# Altium footprint library STSPIN32F0A.PcbLib: 3 footprints
Each footprint in its own frame and in the unit in brackets; x right, y up, seen from the top. Pads: shape width x height; smd on the part's side, far side on the other; paste and mask are expansions set on the pad; w line width, h text height; cw(c..) or ccw(c..) is an arc to the next point about the centre after c.
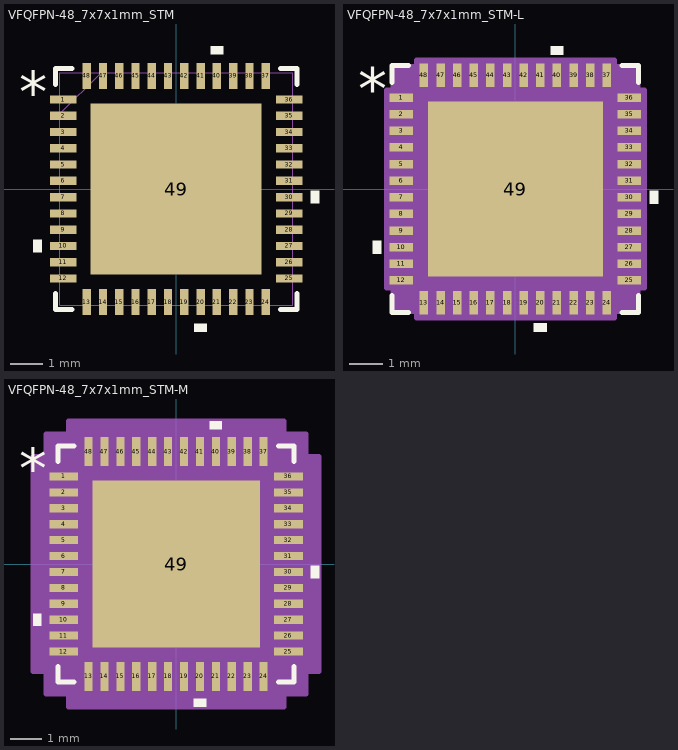
[diagram p0: the footprints below, top view; thin cyan lines are the x and y axes]

## VFQFPN-48_7x7x1mm_STM [mm]
pads (49):
  rect 0.808x0.255 smd paste+0 mask+0: 1(-3.477,2.75) 2(-3.477,2.25) 3(-3.477,1.75) 4(-3.477,1.25) 5(-3.477,0.75) 6(-3.477,0.25) 7(-3.477,-0.25) 8(-3.477,-0.75) 9(-3.477,-1.25) 10(-3.477,-1.75) 11(-3.477,-2.25) 12(-3.477,-2.75) 25(3.477,-2.75) 26(3.477,-2.25) 27(3.477,-1.75) 28(3.477,-1.25) 29(3.477,-0.75) 30(3.477,-0.25) 31(3.477,0.25) 32(3.477,0.75) 33(3.477,1.25) 34(3.477,1.75) 35(3.477,2.25) 36(3.477,2.75)
  rect 0.255x0.808 smd paste+0 mask+0: 13(-2.75,-3.477) 14(-2.25,-3.477) 15(-1.75,-3.477) 16(-1.25,-3.477) 17(-0.75,-3.477) 18(-0.25,-3.477) 19(0.25,-3.477) 20(0.75,-3.477) 21(1.25,-3.477) 22(1.75,-3.477) 23(2.25,-3.477) 24(2.75,-3.477) 37(2.75,3.477) 38(2.25,3.477) 39(1.75,3.477) 40(1.25,3.477) 41(0.75,3.477) 42(0.25,3.477) 43(-0.25,3.477) 44(-0.75,3.477) 45(-1.25,3.477) 46(-1.75,3.477) 47(-2.25,3.477) 48(-2.75,3.477)
  rect 5.258x5.258 smd paste-2.629 mask+0: 49(0,0)
Top Overlay:
  region: 1.441,4.135 1.06,4.135 1.06,4.389 1.441,4.389
  region: 4.135,-0.059 4.389,-0.059 4.389,-0.44 4.135,-0.44
  region: 0.941,-4.135 0.56,-4.135 0.56,-4.389 0.941,-4.389
  region: -4.135,-1.559 -4.389,-1.559 -4.389,-1.94 -4.135,-1.94
  lines w0.152: -3.708,-3.21 -3.708,-3.708 -3.21,-3.708 ; -3.708,3.21 -3.708,3.708 -3.21,3.708 ; 3.21,-3.708 3.708,-3.708 3.708,-3.21 ; 3.21,3.708 3.708,3.708 3.708,3.21
  text "*" at -4.834,2.365 h1.27
Top Paste:
  region: 2.529,-1.414 1.414,-1.414 1.414,-2.529 2.529,-2.529
  region: 2.529,-0.1 1.414,-0.1 1.414,-1.214 2.529,-1.214
  region: 2.529,1.214 1.414,1.214 1.414,0.1 2.529,0.1
  region: 2.529,2.529 1.414,2.529 1.414,1.414 2.529,1.414
  region: 1.214,-1.414 0.1,-1.414 0.1,-2.529 1.214,-2.529
  region: 1.214,-0.1 0.1,-0.1 0.1,-1.214 1.214,-1.214
  region: 1.214,1.214 0.1,1.214 0.1,0.1 1.214,0.1
  region: 1.214,2.529 0.1,2.529 0.1,1.414 1.214,1.414
  region: -0.1,-1.414 -1.214,-1.414 -1.214,-2.529 -0.1,-2.529
  region: -0.1,-0.1 -1.214,-0.1 -1.214,-1.214 -0.1,-1.214
  region: -0.1,1.214 -1.214,1.214 -1.214,0.1 -0.1,0.1
  region: -0.1,2.529 -1.214,2.529 -1.214,1.414 -0.1,1.414
  region: -1.414,-1.414 -2.529,-1.414 -2.529,-2.529 -1.414,-2.529
  region: -1.414,-0.1 -2.529,-0.1 -2.529,-1.214 -1.414,-1.214
  region: -1.414,1.214 -2.529,1.214 -2.529,0.1 -1.414,0.1
  region: -1.414,2.529 -2.529,2.529 -2.529,1.414 -1.414,1.414
Mechanical 13:
  lines w0.025: -3.581,2.311 -2.311,3.581 ; -3.581,-3.581 -3.581,3.581 3.581,3.581 3.581,-3.581 -3.581,-3.581 ; -3.581,-2.902 -3.581,-2.598 -3.581,-2.902 ; -3.581,-2.402 -3.581,-2.098 -3.581,-2.402 ; -3.581,-1.902 -3.581,-1.598 -3.581,-1.902 ; -3.581,-1.402 -3.581,-1.098 -3.581,-1.402 ; -3.581,-0.902 -3.581,-0.598 -3.581,-0.902 ; -3.581,-0.402 -3.581,-0.098 -3.581,-0.402 ; -3.581,0.098 -3.581,0.402 -3.581,0.098 ; -3.581,0.598 -3.581,0.902 -3.581,0.598 ; -3.581,1.098 -3.581,1.402 -3.581,1.098 ; -3.581,1.598 -3.581,1.902 -3.581,1.598 ; -3.581,2.098 -3.581,2.402 -3.581,2.098 ; -3.581,2.598 -3.581,2.902 -3.581,2.598 ; -2.902,-3.581 -2.598,-3.581 -2.902,-3.581 ; -2.902,3.581 -2.598,3.581 -2.902,3.581 ; -2.402,-3.581 -2.098,-3.581 -2.402,-3.581 ; -2.402,3.581 -2.098,3.581 -2.402,3.581 ; -1.902,-3.581 -1.598,-3.581 -1.902,-3.581 ; -1.902,3.581 -1.598,3.581 -1.902,3.581 ; -1.402,-3.581 -1.098,-3.581 -1.402,-3.581 ; -1.402,3.581 -1.098,3.581 -1.402,3.581 ; -0.902,-3.581 -0.598,-3.581 -0.902,-3.581 ; -0.902,3.581 -0.598,3.581 -0.902,3.581 ; -0.402,-3.581 -0.098,-3.581 -0.402,-3.581 ; -0.402,3.581 -0.098,3.581 -0.402,3.581 ; 0.098,-3.581 0.402,-3.581 0.098,-3.581 ; 0.098,3.581 0.402,3.581 0.098,3.581 ; 0.598,-3.581 0.902,-3.581 0.598,-3.581 ; 0.598,3.581 0.902,3.581 0.598,3.581 ; 1.098,-3.581 1.402,-3.581 1.098,-3.581 ; 1.098,3.581 1.402,3.581 1.098,3.581 ; 1.598,-3.581 1.902,-3.581 1.598,-3.581 ; 1.598,3.581 1.902,3.581 1.598,3.581 ; 2.098,-3.581 2.402,-3.581 2.098,-3.581 ; 2.098,3.581 2.402,3.581 2.098,3.581 ; 2.598,-3.581 2.902,-3.581 2.598,-3.581 ; 2.598,3.581 2.902,3.581 2.598,3.581 ; 3.581,-2.902 3.581,-2.598 3.581,-2.902 ; 3.581,-2.402 3.581,-2.098 3.581,-2.402 ; 3.581,-1.902 3.581,-1.598 3.581,-1.902 ; 3.581,-1.402 3.581,-1.098 3.581,-1.402 ; 3.581,-0.902 3.581,-0.598 3.581,-0.902 ; 3.581,-0.402 3.581,-0.098 3.581,-0.402 ; 3.581,0.098 3.581,0.402 3.581,0.098 ; 3.581,0.598 3.581,0.902 3.581,0.598 ; 3.581,1.098 3.581,1.402 3.581,1.098 ; 3.581,1.598 3.581,1.902 3.581,1.598 ; 3.581,2.098 3.581,2.402 3.581,2.098 ; 3.581,2.598 3.581,2.902 3.581,2.598
  text "*" at -3.391,2.365 h1.27
3D body "VFQFPN-48_7x7x1mm_STM.step": height 0.99, standoff 0, extent -3.581,-3.581 3.581,3.581

## VFQFPN-48_7x7x1mm_STM-L [mm]
pads (49):
  rect 0.708x0.255 smd paste+0 mask+0: 1(-3.427,2.75) 2(-3.427,2.25) 3(-3.427,1.75) 4(-3.427,1.25) 5(-3.427,0.75) 6(-3.427,0.25) 7(-3.427,-0.25) 8(-3.427,-0.75) 9(-3.427,-1.25) 10(-3.427,-1.75) 11(-3.427,-2.25) 12(-3.427,-2.75) 25(3.427,-2.75) 26(3.427,-2.25) 27(3.427,-1.75) 28(3.427,-1.25) 29(3.427,-0.75) 30(3.427,-0.25) 31(3.427,0.25) 32(3.427,0.75) 33(3.427,1.25) 34(3.427,1.75) 35(3.427,2.25) 36(3.427,2.75)
  rect 0.255x0.708 smd paste+0 mask+0: 13(-2.75,-3.427) 14(-2.25,-3.427) 15(-1.75,-3.427) 16(-1.25,-3.427) 17(-0.75,-3.427) 18(-0.25,-3.427) 19(0.25,-3.427) 20(0.75,-3.427) 21(1.25,-3.427) 22(1.75,-3.427) 23(2.25,-3.427) 24(2.75,-3.427) 37(2.75,3.427) 38(2.25,3.427) 39(1.75,3.427) 40(1.25,3.427) 41(0.75,3.427) 42(0.25,3.427) 43(-0.25,3.427) 44(-0.75,3.427) 45(-1.25,3.427) 46(-1.75,3.427) 47(-2.25,3.427) 48(-2.75,3.427)
  rect 5.258x5.258 smd paste-2.629 mask+0: 49(0,0)
Top Overlay:
  region: -4.035,-1.559 -4.289,-1.559 -4.289,-1.94 -4.035,-1.94
  region: 0.941,-4.035 0.56,-4.035 0.56,-4.289 0.941,-4.289
  region: 4.035,-0.059 4.289,-0.059 4.289,-0.44 4.035,-0.44
  region: 1.441,4.035 1.06,4.035 1.06,4.289 1.441,4.289
  lines w0.152: -3.708,-3.21 -3.708,-3.708 -3.21,-3.708 ; -3.708,3.21 -3.708,3.708 -3.21,3.708 ; 3.21,-3.708 3.708,-3.708 3.708,-3.21 ; 3.21,3.708 3.708,3.708 3.708,3.21
  text "*" at -4.734,2.365 h1.27
  text ".Designator" at -3.492,-0.635 h1.27
Top Paste:
  region: -1.414,2.529 -2.529,2.529 -2.529,1.414 -1.414,1.414
  region: -1.414,1.214 -2.529,1.214 -2.529,0.1 -1.414,0.1
  region: -1.414,-0.1 -2.529,-0.1 -2.529,-1.214 -1.414,-1.214
  region: -1.414,-1.414 -2.529,-1.414 -2.529,-2.529 -1.414,-2.529
  region: -0.1,2.529 -1.214,2.529 -1.214,1.414 -0.1,1.414
  region: -0.1,1.214 -1.214,1.214 -1.214,0.1 -0.1,0.1
  region: -0.1,-0.1 -1.214,-0.1 -1.214,-1.214 -0.1,-1.214
  region: -0.1,-1.414 -1.214,-1.414 -1.214,-2.529 -0.1,-2.529
  region: 1.214,2.529 0.1,2.529 0.1,1.414 1.214,1.414
  region: 1.214,1.214 0.1,1.214 0.1,0.1 1.214,0.1
  region: 1.214,-0.1 0.1,-0.1 0.1,-1.214 1.214,-1.214
  region: 1.214,-1.414 0.1,-1.414 0.1,-2.529 1.214,-2.529
  region: 2.529,2.529 1.414,2.529 1.414,1.414 2.529,1.414
  region: 2.529,1.214 1.414,1.214 1.414,0.1 2.529,0.1
  region: 2.529,-0.1 1.414,-0.1 1.414,-1.214 2.529,-1.214
  region: 2.529,-1.414 1.414,-1.414 1.414,-2.529 2.529,-2.529
Mechanical 13:
  drawing of 201 lines, arcs and shapes, not listed
  text ".Designator" at -3.492,-0.635 h1.27
  text "*" at -3.391,2.365 h1.27
Mechanical 15:
  region: -2.979,-3.683 -3.683,-3.683 -3.683,-2.979 -3.883,-2.979 -3.883,2.979 -3.683,2.979 -3.683,3.683 -2.979,3.683 -2.979,3.883 2.979,3.883 2.979,3.683 3.683,3.683 3.683,2.979 3.883,2.979 3.883,-2.979 3.683,-2.979 3.683,-3.683 2.979,-3.683 2.979,-3.883 -2.979,-3.883
  lines w0.152: -3.883,-2.979 -3.683,-2.979 -3.683,-3.683 -2.979,-3.683 -2.979,-3.883 2.979,-3.883 2.979,-3.683 3.683,-3.683 3.683,-2.979 3.883,-2.979 3.883,2.979 3.683,2.979 3.683,3.683 2.979,3.683 2.979,3.883 -2.979,3.883 -2.979,3.683 -3.683,3.683 -3.683,2.979 -3.883,2.979 -3.883,-2.979
3D body "VFQFPN-48_7x7x1mm_STM.step": height 0.99, standoff 0, extent -3.581,-3.581 3.581,3.581

## VFQFPN-48_7x7x1mm_STM-M [mm]
pads (49):
  rect 0.908x0.255 smd paste+0 mask+0: 1(-3.527,2.75) 2(-3.527,2.25) 3(-3.527,1.75) 4(-3.527,1.25) 5(-3.527,0.75) 6(-3.527,0.25) 7(-3.527,-0.25) 8(-3.527,-0.75) 9(-3.527,-1.25) 10(-3.527,-1.75) 11(-3.527,-2.25) 12(-3.527,-2.75) 25(3.527,-2.75) 26(3.527,-2.25) 27(3.527,-1.75) 28(3.527,-1.25) 29(3.527,-0.75) 30(3.527,-0.25) 31(3.527,0.25) 32(3.527,0.75) 33(3.527,1.25) 34(3.527,1.75) 35(3.527,2.25) 36(3.527,2.75)
  rect 0.255x0.908 smd paste+0 mask+0: 13(-2.75,-3.527) 14(-2.25,-3.527) 15(-1.75,-3.527) 16(-1.25,-3.527) 17(-0.75,-3.527) 18(-0.25,-3.527) 19(0.25,-3.527) 20(0.75,-3.527) 21(1.25,-3.527) 22(1.75,-3.527) 23(2.25,-3.527) 24(2.75,-3.527) 37(2.75,3.527) 38(2.25,3.527) 39(1.75,3.527) 40(1.25,3.527) 41(0.75,3.527) 42(0.25,3.527) 43(-0.25,3.527) 44(-0.75,3.527) 45(-1.25,3.527) 46(-1.75,3.527) 47(-2.25,3.527) 48(-2.75,3.527)
  rect 5.258x5.258 smd paste-2.629 mask+0: 49(0,0)
Top Overlay:
  region: -4.235,-1.559 -4.489,-1.559 -4.489,-1.94 -4.235,-1.94
  region: 0.941,-4.235 0.56,-4.235 0.56,-4.489 0.941,-4.489
  region: 4.235,-0.059 4.489,-0.059 4.489,-0.44 4.235,-0.44
  region: 1.441,4.235 1.06,4.235 1.06,4.489 1.441,4.489
  lines w0.152: -3.708,-3.21 -3.708,-3.708 -3.21,-3.708 ; -3.708,3.21 -3.708,3.708 -3.21,3.708 ; 3.21,-3.708 3.708,-3.708 3.708,-3.21 ; 3.21,3.708 3.708,3.708 3.708,3.21
  text "*" at -4.934,2.365 h1.27
  text ".Designator" at -3.492,-0.635 h1.27
Top Paste:
  region: -1.414,2.529 -2.529,2.529 -2.529,1.414 -1.414,1.414
  region: -1.414,1.214 -2.529,1.214 -2.529,0.1 -1.414,0.1
  region: -1.414,-0.1 -2.529,-0.1 -2.529,-1.214 -1.414,-1.214
  region: -1.414,-1.414 -2.529,-1.414 -2.529,-2.529 -1.414,-2.529
  region: -0.1,2.529 -1.214,2.529 -1.214,1.414 -0.1,1.414
  region: -0.1,1.214 -1.214,1.214 -1.214,0.1 -0.1,0.1
  region: -0.1,-0.1 -1.214,-0.1 -1.214,-1.214 -0.1,-1.214
  region: -0.1,-1.414 -1.214,-1.414 -1.214,-2.529 -0.1,-2.529
  region: 1.214,2.529 0.1,2.529 0.1,1.414 1.214,1.414
  region: 1.214,1.214 0.1,1.214 0.1,0.1 1.214,0.1
  region: 1.214,-0.1 0.1,-0.1 0.1,-1.214 1.214,-1.214
  region: 1.214,-1.414 0.1,-1.414 0.1,-2.529 1.214,-2.529
  region: 2.529,2.529 1.414,2.529 1.414,1.414 2.529,1.414
  region: 2.529,1.214 1.414,1.214 1.414,0.1 2.529,0.1
  region: 2.529,-0.1 1.414,-0.1 1.414,-1.214 2.529,-1.214
  region: 2.529,-1.414 1.414,-1.414 1.414,-2.529 2.529,-2.529
Mechanical 13:
  drawing of 201 lines, arcs and shapes, not listed
  text ".Designator" at -3.492,-0.635 h1.27
  text "*" at -3.391,2.365 h1.27
Mechanical 15:
  region: -3.385,-4.089 -4.089,-4.089 -4.089,-3.385 -4.489,-3.385 -4.489,3.385 -4.089,3.385 -4.089,4.089 -3.385,4.089 -3.385,4.489 3.385,4.489 3.385,4.089 4.089,4.089 4.089,3.385 4.489,3.385 4.489,-3.385 4.089,-3.385 4.089,-4.089 3.385,-4.089 3.385,-4.489 -3.385,-4.489
  lines w0.152: -4.489,-3.385 -4.089,-3.385 -4.089,-4.089 -3.385,-4.089 -3.385,-4.489 3.385,-4.489 3.385,-4.089 4.089,-4.089 4.089,-3.385 4.489,-3.385 4.489,3.385 4.089,3.385 4.089,4.089 3.385,4.089 3.385,4.489 -3.385,4.489 -3.385,4.089 -4.089,4.089 -4.089,3.385 -4.489,3.385 -4.489,-3.385
3D body "VFQFPN-48_7x7x1mm_STM.step": height 0.99, standoff 0, extent -3.581,-3.581 3.581,3.581